# EAGLE library part STM32G070RB (library pimoroni-ics)
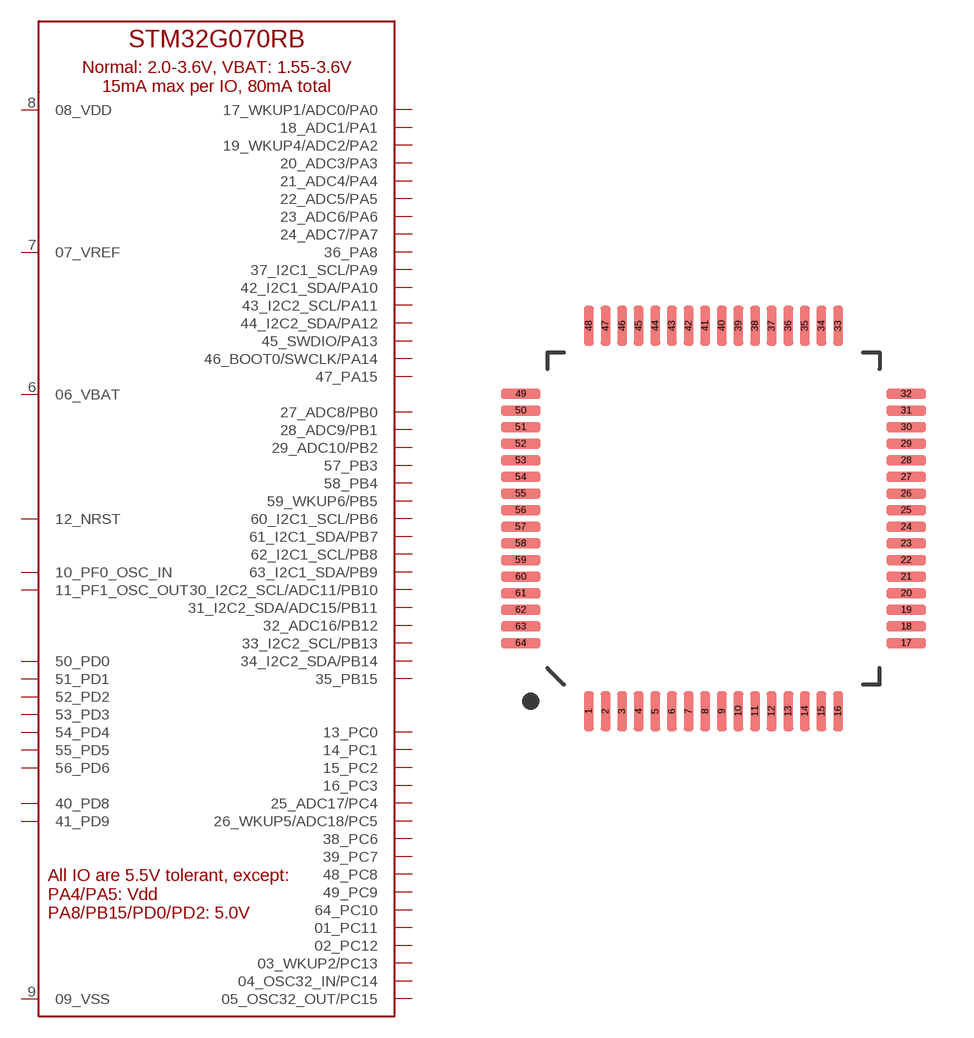
[diagram p97: symbol with the pads of QFP-64; footprint QFP-64]

Designator prefix U

## STM32G070RB  [QFP-64]
1  01_PC11
2  02_PC12
3  03_WKUP2/PC13
4  04_OSC32_IN/PC14
5  05_OSC32_OUT/PC15
6  06_VBAT
7  07_VREF
8  08_VDD
9  09_VSS
10  10_PF0_OSC_IN
11  11_PF1_OSC_OUT
12  12_NRST
13  13_PC0
14  14_PC1
15  15_PC2
16  16_PC3
17  17_WKUP1/ADC0/PA0
18  18_ADC1/PA1
19  19_WKUP4/ADC2/PA2
20  20_ADC3/PA3
21  21_ADC4/PA4
22  22_ADC5/PA5
23  23_ADC6/PA6
24  24_ADC7/PA7
25  25_ADC17/PC4
26  26_WKUP5/ADC18/PC5
27  27_ADC8/PB0
28  28_ADC9/PB1
29  29_ADC10/PB2
30  30_I2C2_SCL/ADC11/PB10
31  31_I2C2_SDA/ADC15/PB11
32  32_ADC16/PB12
33  33_I2C2_SCL/PB13
34  34_I2C2_SDA/PB14
35  35_PB15
36  36_PA8
37  37_I2C1_SCL/PA9
38  38_PC6
39  39_PC7
40  40_PD8
41  41_PD9
42  42_I2C1_SDA/PA10
43  43_I2C2_SCL/PA11
44  44_I2C2_SDA/PA12
45  45_SWDIO/PA13
46  46_BOOT0/SWCLK/PA14
47  47_PA15
48  48_PC8
49  49_PC9
50  50_PD0
51  51_PD1
52  52_PD2
53  53_PD3
54  54_PD4
55  55_PD5
56  56_PD6
57  57_PB3
58  58_PB4
59  59_WKUP6/PB5
60  60_I2C1_SCL/PB6
61  61_I2C1_SDA/PB7
62  62_I2C1_SCL/PB8
63  63_I2C1_SDA/PB9
64  64_PC10

## Footprint QFP-64 (pad centres in mm)
smd 0.3 x 1.2: 1 -3.75,-5.8; 2 -3.25,-5.8; 3 -2.75,-5.8; 4 -2.25,-5.8; 5 -1.75,-5.8; 6 -1.25,-5.8; 7 -0.75,-5.8; 8 -0.25,-5.8; 9 0.25,-5.8; 10 0.75,-5.8; 11 1.25,-5.8; 12 1.75,-5.8; 13 2.25,-5.8; 14 2.75,-5.8; 15 3.25,-5.8; 16 3.75,-5.8; 33 3.75,5.8; 34 3.25,5.8; 35 2.75,5.8; 36 2.25,5.8; 37 1.75,5.8; 38 1.25,5.8; 39 0.75,5.8; 40 0.25,5.8; 41 -0.25,5.8; 42 -0.75,5.8; 43 -1.25,5.8; 44 -1.75,5.8; 45 -2.25,5.8; 46 -2.75,5.8; 47 -3.25,5.8; 48 -3.75,5.8
smd 1.2 x 0.3: 17 5.8,-3.75; 18 5.8,-3.25; 19 5.8,-2.75; 20 5.8,-2.25; 21 5.8,-1.75; 22 5.8,-1.25; 23 5.8,-0.75; 24 5.8,-0.25; 25 5.8,0.25; 26 5.8,0.75; 27 5.8,1.25; 28 5.8,1.75; 29 5.8,2.25; 30 5.8,2.75; 31 5.8,3.25; 32 5.8,3.75; 49 -5.8,3.75; 50 -5.8,3.25; 51 -5.8,2.75; 52 -5.8,2.25; 53 -5.8,1.75; 54 -5.8,1.25; 55 -5.8,0.75; 56 -5.8,0.25; 57 -5.8,-0.25; 58 -5.8,-0.75; 59 -5.8,-1.25; 60 -5.8,-1.75; 61 -5.8,-2.25; 62 -5.8,-2.75; 63 -5.8,-3.25; 64 -5.8,-3.75